# EAGLE library part CONN_NANO54415_MODULE (library GTEEL_gwu_mpnl_ucat_v10)
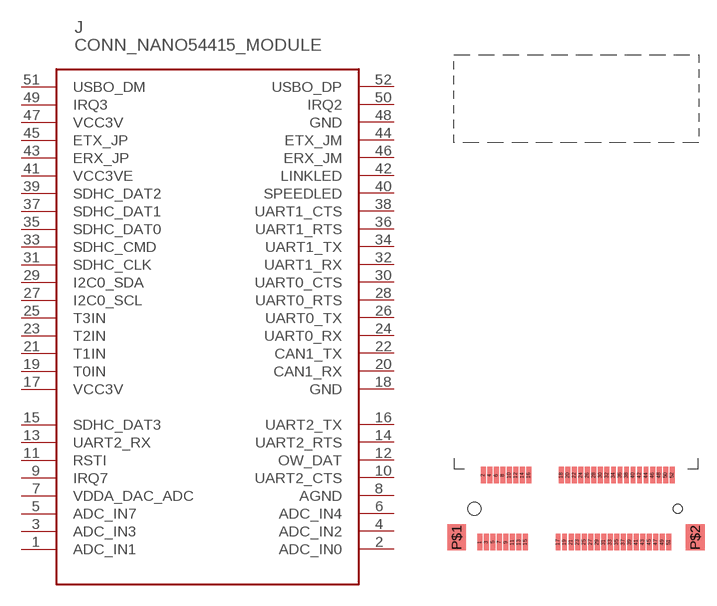
[diagram p8: symbol with the pads of CONN_SD-67910-001; footprint CONN_SD-67910-001]

Designator prefix J

## CONN_NANO54415_MODULE (MF: MOLEX; MPN: SD-679101-002)  [CONN_SD-67910-001]
1  ADC_IN1
2  ADC_IN0
3  ADC_IN3
4  ADC_IN2
5  ADC_IN7
6  ADC_IN4
7  VDDA_DAC_ADC
8  AGND
9  IRQ7
10  UART2_CTS
11  RSTI
12  OW_DAT
13  UART2_RX
14  UART2_RTS
15  SDHC_DAT3
16  UART2_TX
17  VCC3V
18  GND
19  T0IN
20  CAN1_RX
21  T1IN
22  CAN1_TX
23  T2IN
24  UART0_RX
25  T3IN
26  UART0_TX
27  I2C0_SCL
28  UART0_RTS
29  I2C0_SDA
30  UART0_CTS
31  SDHC_CLK
32  UART1_RX
33  SDHC_CMD
34  UART1_TX
35  SDHC_DAT0
36  UART1_RTS
37  SDHC_DAT1
38  UART1_CTS
39  SDHC_DAT2
40  SPEEDLED
41  VCC3VE
42  LINKLED
43  ERX_JP
44  ETX_JM
45  ETX_JP
46  ERX_JM
47  VCC3V
48  GND
49  IRQ3
50  IRQ2
51  USBO_DM
52  USBO_DP

## Footprint CONN_SD-67910-001 (pad centres in mm)
CONNECTOR for MiniPCI-E 4.0H 0.8MM PITCH 52 CKT W/COVER PBF FOR NETBURNER NANO55415 CU MODULE Needs: MOLEX SD-679101-002 x QTY 1 Overlay dashed outline with that of component below use w/MOLEX SD-48099-400 x QTY 1 two drill holes
smd 0.6 x 2: 1 -11.65,-26.8; 2 -11.248,-18.576; 3 -10.85,-26.8; 4 -10.447,-18.576; 5 -10.05,-26.8; 6 -9.648,-18.576; 7 -9.25,-26.8; 8 -8.848,-18.576; 9 -8.45,-26.8; 10 -8.047,-18.576; 11 -7.65,-26.8; 12 -7.247,-18.576; 13 -6.85,-26.8; 14 -6.447,-18.576; 15 -6.05,-26.8; 16 -5.647,-18.576; 17 -2.05,-26.8; 18 -1.647,-18.576; 19 -1.25,-26.8; 20 -0.848,-18.576; 21 -0.45,-26.8; 22 -0.048,-18.576; 23 0.35,-26.8; 24 0.752,-18.576; 25 1.15,-26.8; 26 1.552,-18.576; 27 1.95,-26.8; 28 2.353,-18.576; 29 2.75,-26.8; 30 3.152,-18.576; 31 3.55,-26.8; 32 3.953,-18.576; 33 4.35,-26.8; 34 4.753,-18.576; 35 5.15,-26.8; 36 5.553,-18.576; 37 5.95,-26.8; 38 6.353,-18.576; 39 6.75,-26.8; 40 7.152,-18.576; 41 7.55,-26.8; 42 7.952,-18.576; 43 8.35,-26.8; 44 8.752,-18.576; 45 9.15,-26.8; 46 9.553,-18.576; 47 9.95,-26.8; 48 10.352,-18.576; 49 10.75,-26.8; 50 11.152,-18.576; 51 11.55,-26.8; 52 11.953,-18.576
smd 2.3 x 3.2: P$1 -14.5,-26.2; P$2 14.8,-26.2
hole 1.6 at -12.35,-22.7
hole 1.1 at 12.65,-22.7